# Altium footprint library wulpus_pro_acq.PcbLib: 62 footprints (part 2 of 4)
Each footprint in its own frame and in the unit in brackets; x right, y up, seen from the top. Pads: shape width x height; smd on the part's side, far side on the other; paste and mask are expansions set on the pad; w line width, h text height; cw(c..) or ccw(c..) is an arc to the next point about the centre after c.
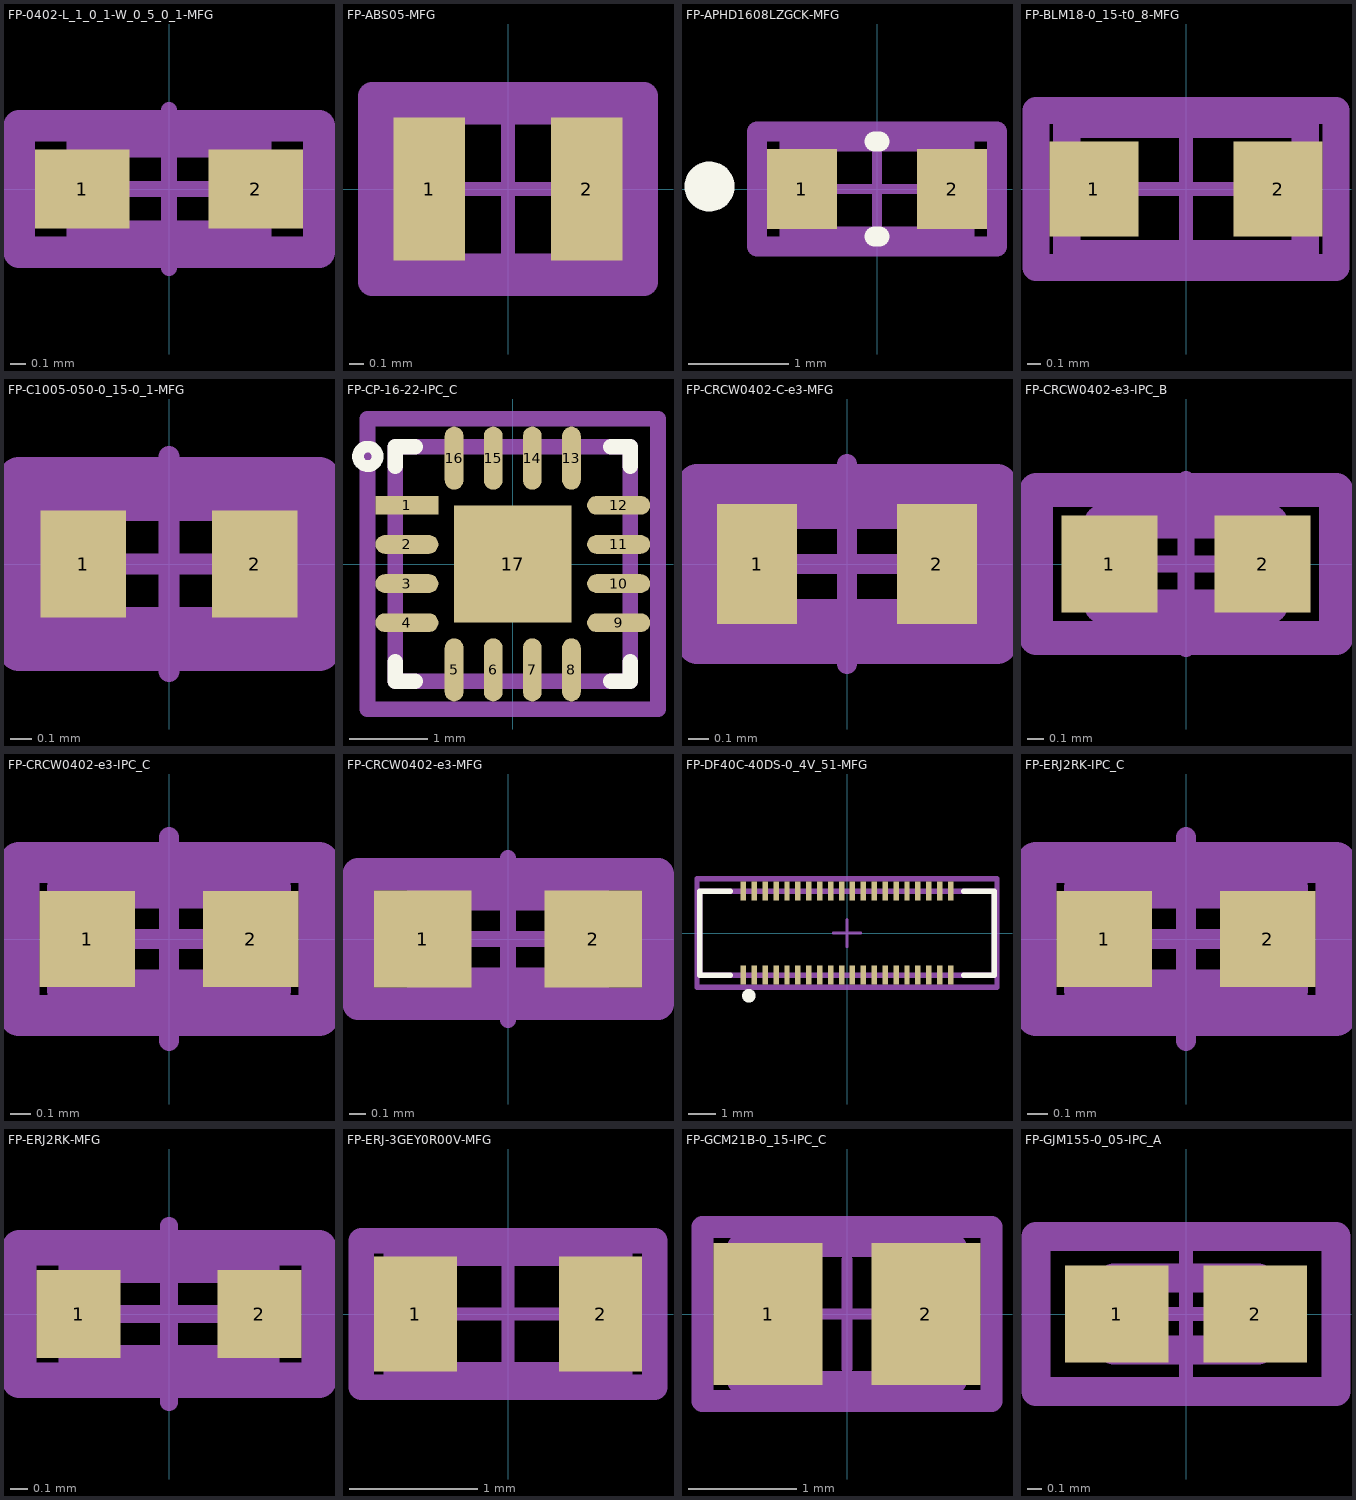
[diagram p1: the footprints below, top view; thin cyan lines are the x and y axes]

## FP-0402-L_1_0_1-W_0_5_0_1-MFG [mm]
pads (2):
  rect 0.6x0.5 smd paste+0 mask+0: 1(-0.55,0) 2(0.55,0)
Top Assembly:
  lines w0.2: -0.95,-0.4 0.95,-0.4 0.95,0.4 -0.95,0.4 -0.95,-0.4
  text ".Designator" at 0.15,0.417 h0.8
Top 3D Body:
  lines w0.2: -0.55,-0.3 0.55,-0.3 0.55,0.3 -0.55,0.3 -0.55,-0.3
Top Courtyard:
  lines w0.2: -0.95,-0.4 0.95,-0.4 0.95,0.4 -0.95,0.4 -0.95,-0.4
Top Component Center:
  lines w0.1: -0.5,0 0.5,0 ; 0,-0.5 0,0.5
3D body "Cap_AVX_04025C472KAT2A_eec.STEP": height 0.25, standoff 0, extent -0.95,-0.4 0.95,0.4

## FP-ABS05-MFG [mm]
pads (2):
  rect 0.5x1 smd paste+0 mask+0: 1(-0.55,0) 2(0.55,0)
Top Assembly:
  lines w0.2: -0.95,-0.65 0.95,-0.65 0.95,0.65 -0.95,0.65 -0.95,-0.65
  text ".Designator" at 0.15,0.417 h0.8
Top 3D Body:
  lines w0.2: -0.85,-0.55 0.85,-0.55 0.85,0.55 -0.85,0.55 -0.85,-0.55
Top Courtyard:
  lines w0.2: -0.95,-0.65 0.95,-0.65 0.95,0.65 -0.95,0.65 -0.95,-0.65
Top Component Center:
  lines w0.1: -0.5,0 0.5,0 ; 0,-0.5 0,0.5
3D body "Crys_Abracon_ABS05-32_768KHZ-9-T_eec.STEP": height 0.25, standoff 0, extent -0.95,-0.65 0.95,0.65

## FP-APHD1608LZGCK-MFG [mm]
pads (2):
  rect 0.7x0.8 smd paste+0 mask+0: 1(-0.75,0) 2(0.75,0)
Top Overlay:
  circle w0.25: c-1.675,0.025 r0.125
  lines w0.2: -0.025,-0.475 0.025,-0.475 ; -0.025,0.475 0.025,0.475
Top Assembly:
  lines w0.2: -1.2,-0.575 -1.2,0.575 1.2,0.575 1.2,-0.575 -1.2,-0.575
  text ".Designator" at 0.15,0.228 h0.8
Top 3D Body:
  lines w0.2: -0.875,-0.475 -0.875,0.475 0.875,0.475 0.875,-0.475 -0.875,-0.475
Top Courtyard:
  lines w0.2: -1.2,-0.575 -1.2,0.575 1.2,0.575 1.2,-0.575 -1.2,-0.575
Top Component Center:
  lines w0.1: -0.5,0 0.5,0 ; 0,-0.5 0,0.5
3D body "Diode_Kingbright_APHD1608LZGCK_eec.STEP": height 0.25, standoff 0, extent -1.2,-0.575 1.2,0.575

## FP-BLM18-0_15-t0_8-MFG [mm]
pads (2):
  rect 0.65x0.7 smd paste+0 mask+0: 1(-0.675,0) 2(0.675,0)
Top Assembly:
  lines w0.2: -1.1,-0.575 1.1,-0.575 1.1,0.575 -1.1,0.575 -1.1,-0.575
  text ".Designator" at 0.15,0.417 h0.8
Top 3D Body:
  lines w0.2: -0.875,-0.475 0.875,-0.475 0.875,0.475 -0.875,0.475 -0.875,-0.475
Top Courtyard:
  lines w0.2: -1.1,-0.575 1.1,-0.575 1.1,0.575 -1.1,0.575 -1.1,-0.575
Top Component Center:
  lines w0.1: -0.5,0 0.5,0 ; 0,-0.5 0,0.5
3D body "FBead_Murata_BLM18SP300SZ1D_eec.STEP": height 0.95, standoff 0, extent -0.8,-0.4 0.8,0.4

## FP-C1005-050-0_15-0_1-MFG [mm]
pads (2):
  rect 0.4x0.5 smd paste+0 mask+0: 1(-0.4,0) 2(0.4,0)
Top Assembly:
  lines w0.2: -0.7,-0.4 0.7,-0.4 0.7,0.4 -0.7,0.4 -0.7,-0.4
  text ".Designator" at 0,0.188 h1
Top 3D Body:
  lines w0.2: -0.575,-0.3 0.575,-0.3 0.575,0.3 -0.575,0.3 -0.575,-0.3
Top Courtyard:
  lines w0.2: -0.7,-0.4 0.7,-0.4 0.7,0.4 -0.7,0.4 -0.7,-0.4
Top Component Center:
  lines w0.1: -0.5,0 0.5,0 ; 0,-0.5 0,0.5
3D body "Cap_TDK_Corporation_C1005X7S1A225K050BC_eec.STEP": height 0.65, standoff 0, extent -0.5,-0.25 0.5,0.25

## FP-CP-16-22-IPC_C [mm]
pads (17):
  rect 0.806x0.239 smd paste+0 mask+0: 1(-1.353,0.75)
  rrect100% 0.806x0.239 smd paste+0 mask+0: 2(-1.353,0.25) 3(-1.353,-0.25) 4(-1.353,-0.75) 9(1.353,-0.75) 10(1.353,-0.25) 11(1.353,0.25) 12(1.353,0.75)
  rrect100% 0.239x0.806 smd paste+0 mask+0: 5(-0.75,-1.353) 6(-0.25,-1.353) 7(0.25,-1.353) 8(0.75,-1.353) 13(0.75,1.353) 14(0.25,1.353) 15(-0.25,1.353) 16(-0.75,1.353)
  rect 1.5x1.5 smd paste-1000 mask+0: 17(0,0)
Top Overlay:
  circle w0.15: c-1.853,1.375 r0.125
  lines w0.2: -1.5,-1.25 -1.5,-1.5 -1.25,-1.5 ; -1.5,1.25 -1.5,1.5 -1.25,1.5 ; 1.25,-1.5 1.5,-1.5 1.5,-1.25 ; 1.25,1.5 1.5,1.5 1.5,1.25
Top Paste:
  rectangle: -0.506,-0.506 0.506,0.506
Top Assembly:
  lines w0.2: -1.856,-1.856 -1.856,1.856 1.856,1.856 1.856,-1.856 -1.856,-1.856
  text ".Designator" at 0.15,0.417 h0.8
Top 3D Body:
  lines w0.2: -1.5,-1.5 -1.5,1.5 1.5,1.5 1.5,-1.5 -1.5,-1.5
Top Courtyard:
  lines w0.2: -1.856,-1.856 -1.856,1.856 1.856,1.856 1.856,-1.856 -1.856,-1.856
Top Component Center:
  lines w0.1: -0.5,0 0.5,0 ; 0,-0.5 0,0.5
3D body "IC_Analog_Devices_AD8338ACPZ-R7_eec.STEP": height 0.8, standoff 0, extent -1.5,-1.499 1.5,1.501

## FP-CRCW0402-C-e3-MFG [mm]
pads (2):
  rect 0.4x0.6 smd paste+0 mask+0: 1(-0.45,0) 2(0.45,0)
Top Assembly:
  lines w0.2: -0.75,-0.4 -0.75,0.4 0.75,0.4 0.75,-0.4 -0.75,-0.4
  text ".Designator" at 0.15,0.417 h0.8
Top 3D Body:
  lines w0.2: -0.55,-0.275 -0.55,0.275 0.55,0.275 0.55,-0.275 -0.55,-0.275
Top Courtyard:
  lines w0.2: -0.75,-0.4 -0.75,0.4 0.75,0.4 0.75,-0.4 -0.75,-0.4
Top Component Center:
  lines w0.1: -0.5,0 0.5,0 ; 0,-0.5 0,0.5
3D body "Res_Vishay_CRCW040249K9FKEDC_eec.STEP": height 0.35, standoff 0, extent -0.5,-0.25 0.5,0.25

## FP-CRCW0402-e3-IPC_B [mm]
pads (2):
  rect 0.568x0.572 smd paste+0 mask+0: 1(-0.452,0) 2(0.452,0)
Top Assembly:
  lines w0.2: -0.886,-0.436 -0.886,0.436 0.886,0.436 0.886,-0.436 -0.886,-0.436
  text ".Designator" at 0.15,0.417 h0.8
Top 3D Body:
  lines w0.2: -0.5,-0.25 -0.5,0.25 0.5,0.25 0.5,-0.25 -0.5,-0.25
Top Courtyard:
  lines w0.2: -0.886,-0.436 -0.886,0.436 0.886,0.436 0.886,-0.436 -0.886,-0.436
Top Component Center:
  lines w0.1: -0.5,0 0.5,0 ; 0,-0.5 0,0.5
3D body "Res_Vishay_CRCW04021K00FKED_eec.STEP": height 0.4, standoff 0, extent -0.5,-0.25 0.5,0.25

## FP-CRCW0402-e3-IPC_C [mm]
pads (2):
  rect 0.468x0.472 smd paste+0 mask+0: 1(-0.402,0) 2(0.402,0)
Top Assembly:
  lines w0.2: -0.736,-0.375 0.736,-0.375 0.736,0.375 -0.736,0.375 -0.736,-0.375
  text ".Designator" at 0,0.188 h1
Top 3D Body:
  lines w0.2: -0.5,-0.25 0.5,-0.25 0.5,0.25 -0.5,0.25 -0.5,-0.25
Top Courtyard:
  lines w0.2: -0.736,-0.375 0.736,-0.375 0.736,0.375 -0.736,0.375 -0.736,-0.375
Top Component Center:
  lines w0.1: -0.5,0 0.5,0 ; 0,-0.5 0,0.5
3D body "Res_Vishay_CRCW04021K00FKED_eec.STEP": height 0.4, standoff 0, extent -0.5,-0.25 0.5,0.25

## FP-CRCW0402-e3-MFG [mm]
pads (2):
  rect 0.6x0.6 smd paste+0 mask+0: 1(-0.525,0) 2(0.525,0)
Top Assembly:
  lines w0.2: -0.925,-0.4 -0.925,0.4 0.925,0.4 0.925,-0.4 -0.925,-0.4
  text ".Designator" at 0.15,0.417 h0.8
Top 3D Body:
  lines w0.2: -0.525,-0.275 -0.525,0.275 0.525,0.275 0.525,-0.275 -0.525,-0.275
Top Courtyard:
  lines w0.2: -0.925,-0.4 -0.925,0.4 0.925,0.4 0.925,-0.4 -0.925,-0.4
Top Component Center:
  lines w0.1: -0.5,0 0.5,0 ; 0,-0.5 0,0.5
3D body "Res_Vishay_CRCW04021K00FKED_eec.STEP": height 0.4, standoff 0, extent -0.5,-0.25 0.5,0.25

## FP-DF40C-40DS-0_4V_51-MFG [mm]
pads (40):
  rect 0.2x0.7 smd paste-1000 mask+0: 1(-3.8,-1.54) 2(-3.8,1.54) 3(-3.4,-1.54) 4(-3.4,1.54) 5(-3,-1.54) 6(-3,1.54) 7(-2.6,-1.54) 8(-2.6,1.54) 9(-2.2,-1.54) 10(-2.2,1.54) 11(-1.8,-1.54) 12(-1.8,1.54) 13(-1.4,-1.54) 14(-1.4,1.54) 15(-1,-1.54) 16(-1,1.54) 17(-0.6,-1.54) 18(-0.6,1.54) 19(-0.2,-1.54) 20(-0.2,1.54) 21(0.2,-1.54) 22(0.2,1.54) 23(0.6,-1.54) 24(0.6,1.54) 25(1,-1.54) 26(1,1.54) 27(1.4,-1.54) 28(1.4,1.54) 29(1.8,-1.54) 30(1.8,1.54) 31(2.2,-1.54) 32(2.2,1.54) 33(2.6,-1.54) 34(2.6,1.54) 35(3,-1.54) 36(3,1.54) 37(3.4,-1.54) 38(3.4,1.54) 39(3.8,-1.54) 40(3.8,1.54)
Top Overlay:
  circle w0.25: c-3.6,-2.3 r0.125
  lines w0.2: -4.275,-1.54 -5.4,-1.54 -5.4,1.54 -4.275,1.54 ; 4.275,-1.54 5.4,-1.54 5.4,1.54 4.275,1.54
Top Paste:
  rectangle: -3.88,1.19 -3.72,1.89
  rectangle: -3.48,1.19 -3.32,1.89
  rectangle: -3.08,1.19 -2.92,1.89
  rectangle: -2.68,1.19 -2.52,1.89
  rectangle: -2.28,1.19 -2.12,1.89
  rectangle: -1.88,1.19 -1.72,1.89
  rectangle: -1.48,1.19 -1.32,1.89
  rectangle: -1.08,1.19 -0.92,1.89
  rectangle: -0.68,1.19 -0.52,1.89
  rectangle: -0.28,1.19 -0.12,1.89
  rectangle: 0.12,1.19 0.28,1.89
  rectangle: 0.52,1.19 0.68,1.89
  rectangle: 0.92,1.19 1.08,1.89
  rectangle: 1.32,1.19 1.48,1.89
  rectangle: 1.72,1.19 1.88,1.89
  rectangle: 2.12,1.19 2.28,1.89
  rectangle: 2.52,1.19 2.68,1.89
  rectangle: 2.92,1.19 3.08,1.89
  rectangle: 3.32,1.19 3.48,1.89
  rectangle: 3.72,1.19 3.88,1.89
  rectangle: -3.88,-1.89 -3.72,-1.19
  rectangle: -3.48,-1.89 -3.32,-1.19
  rectangle: -3.08,-1.89 -2.92,-1.19
  rectangle: -2.68,-1.89 -2.52,-1.19
  rectangle: -2.28,-1.89 -2.12,-1.19
  rectangle: -1.88,-1.89 -1.72,-1.19
  rectangle: -1.48,-1.89 -1.32,-1.19
  rectangle: -1.08,-1.89 -0.92,-1.19
  rectangle: -0.68,-1.89 -0.52,-1.19
  rectangle: -0.28,-1.89 -0.12,-1.19
  rectangle: 0.12,-1.89 0.28,-1.19
  rectangle: 0.52,-1.89 0.68,-1.19
  rectangle: 0.92,-1.89 1.08,-1.19
  rectangle: 1.32,-1.89 1.48,-1.19
  rectangle: 1.72,-1.89 1.88,-1.19
  rectangle: 2.12,-1.89 2.28,-1.19
  rectangle: 2.52,-1.89 2.68,-1.19
  rectangle: 2.92,-1.89 3.08,-1.19
  rectangle: 3.32,-1.89 3.48,-1.19
  rectangle: 3.72,-1.89 3.88,-1.19
Top Assembly:
  lines w0.2: -5.5,-1.99 5.5,-1.99 5.5,1.99 -5.5,1.99 -5.5,-1.99
  text ".Designator" at 0,0.188 h1
Top 3D Body:
  lines w0.2: -5.4,-1.54 5.4,-1.54 5.4,1.54 -5.4,1.54 -5.4,-1.54
Top Courtyard:
  lines w0.2: -5.5,-1.99 5.5,-1.99 5.5,1.99 -5.5,1.99 -5.5,-1.99
Top Component Center:
  lines w0.1: -0.5,0 0.5,0 ; 0,-0.5 0,0.5
3D body "Conn_Hirose_DF40C-40DS-0_4V_51_eec.STEP": height 0.25, standoff 0, extent -5.5,-1.99 5.5,1.99

## FP-ERJ2RK-IPC_C [mm]
pads (2):
  rect 0.468x0.472 smd paste+0 mask+0: 1(-0.402,0) 2(0.402,0)
Top Assembly:
  lines w0.2: -0.736,-0.375 0.736,-0.375 0.736,0.375 -0.736,0.375 -0.736,-0.375
  text ".Designator" at 0.15,0.417 h0.8
Top 3D Body:
  lines w0.2: -0.5,-0.25 0.5,-0.25 0.5,0.25 -0.5,0.25 -0.5,-0.25
Top Courtyard:
  lines w0.2: -0.736,-0.375 0.736,-0.375 0.736,0.375 -0.736,0.375 -0.736,-0.375
Top Component Center:
  lines w0.1: -0.5,0 0.5,0 ; 0,-0.5 0,0.5
3D body "Res_Panasonic_ERJ-2RKF10R0X_eec.STEP": height 0.4, standoff 0, extent -0.499,-0.25 0.501,0.25

## FP-ERJ2RK-MFG [mm]
pads (2):
  rect 0.475x0.5 smd paste+0 mask+0: 1(-0.513,0) 2(0.513,0)
Top Assembly:
  lines w0.2: -0.85,-0.375 -0.85,0.375 0.85,0.375 0.85,-0.375 -0.85,-0.375
  text ".Designator" at 0.15,0.417 h0.8
Top 3D Body:
  lines w0.2: -0.525,-0.275 0.525,-0.275 0.525,0.275 -0.525,0.275 -0.525,-0.275
Top Courtyard:
  lines w0.2: -0.85,-0.375 -0.85,0.375 0.85,0.375 0.85,-0.375 -0.85,-0.375
Top Component Center:
  lines w0.1: -0.5,0 0.5,0 ; 0,-0.5 0,0.5
3D body "Res_Panasonic_ERJ-2RKF10R0X_eec.STEP": height 0.4, standoff 0, extent -0.499,-0.25 0.501,0.25

## FP-ERJ-3GEY0R00V-MFG [mm]
pads (2):
  rect 0.65x0.9 smd paste+0 mask+0: 1(-0.725,0) 2(0.725,0)
Top Assembly:
  lines w0.2: -1.15,-0.575 1.15,-0.575 1.15,0.575 -1.15,0.575 -1.15,-0.575
  text ".Designator" at 0,-0.001 h1
Top 3D Body:
  lines w0.2: -0.875,-0.475 0.875,-0.475 0.875,0.475 -0.875,0.475 -0.875,-0.475
Top Courtyard:
  lines w0.2: -1.15,-0.575 1.15,-0.575 1.15,0.575 -1.15,0.575 -1.15,-0.575
Top Component Center:
  lines w0.1: -0.5,0 0.5,0 -0.5,0 ; 0,-0.5 0,0.5 0,-0.5
3D body "Res_Panasonic_ERJ-3GEY0R00V_eec.STEP": height 0.25, standoff 0, extent -1.15,-0.575 1.15,0.575

## FP-GCM21B-0_15-IPC_C [mm]
pads (2):
  rect 1.006x1.308 smd paste+0 mask+0: 1(-0.726,0) 2(0.726,0)
Top Assembly:
  lines w0.2: -1.329,-0.8 -1.329,0.8 1.329,0.8 1.329,-0.8 -1.329,-0.8
  text ".Designator" at 0.15,0.417 h0.8
Top 3D Body:
  lines w0.2: -1,-0.625 -1,0.625 1,0.625 1,-0.625 -1,-0.625
Top Courtyard:
  lines w0.2: -1.329,-0.8 -1.329,0.8 1.329,0.8 1.329,-0.8 -1.329,-0.8
Top Component Center:
  lines w0.1: -0.5,0 0.5,0 ; 0,-0.5 0,0.5
3D body "Cap_Murata_GCM21BR72A104KA37L_eec.STEP": height 1.4, standoff 0, extent -1,-0.625 1,0.625

## FP-GJM155-0_05-IPC_A [mm]
pads (2):
  rect 0.715x0.672 smd paste+0 mask+0: 1(-0.479,0) 2(0.479,0)
Top Assembly:
  lines w0.2: -1.036,-0.536 1.036,-0.536 1.036,0.536 -1.036,0.536 -1.036,-0.536
  text ".Designator" at 0.15,0.417 h0.8
Top 3D Body:
  lines w0.2: -0.5,-0.25 0.5,-0.25 0.5,0.25 -0.5,0.25 -0.5,-0.25
Top Courtyard:
  lines w0.2: -1.036,-0.536 1.036,-0.536 1.036,0.536 -1.036,0.536 -1.036,-0.536
Top Component Center:
  lines w0.1: -0.5,0 0.5,0 ; 0,-0.5 0,0.5
3D body "Cap_Murata_GJM1551C1H7R0DB01D_eec.STEP": height 0.25, standoff 0, extent -1.036,-0.536 1.036,0.536